# Altium schematic symbol library Schlib1.SchLib: 18 symbols
Pins are listed as number, name and electrical type; pins without a type are passive.

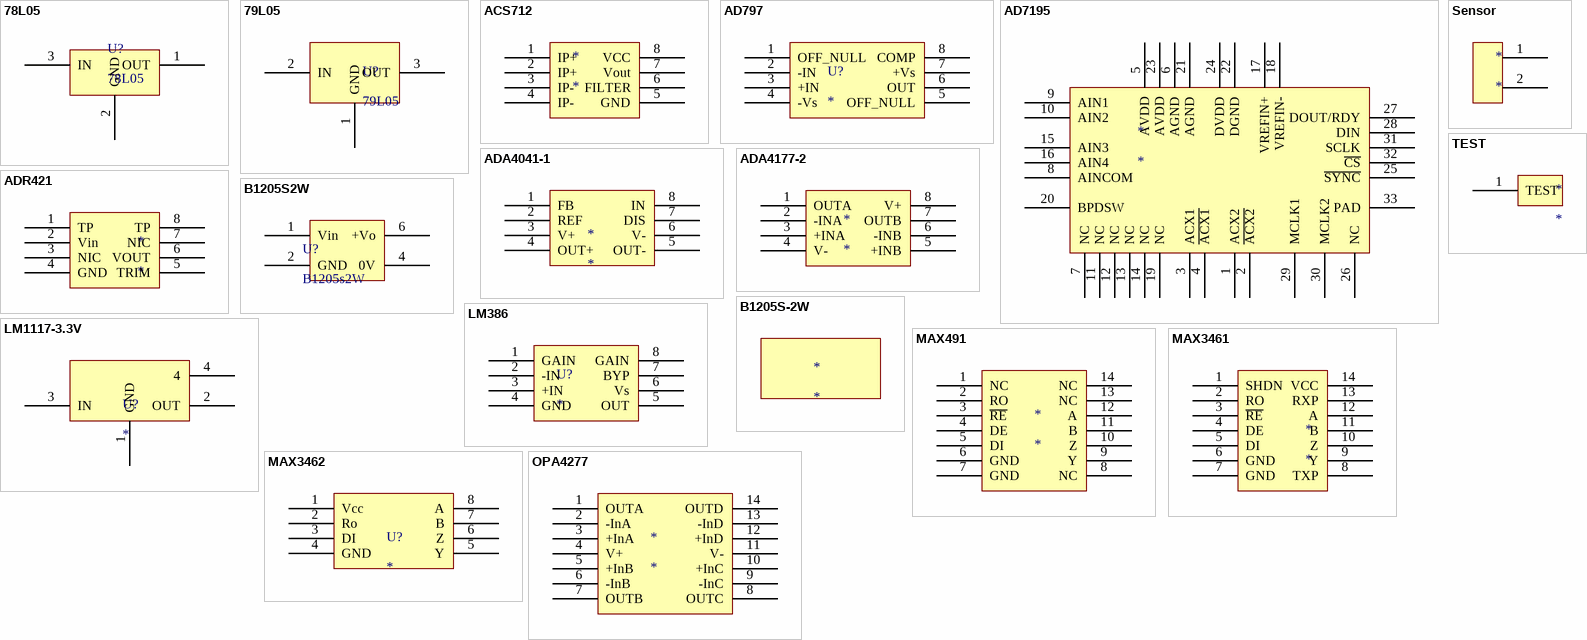
[diagram p0: symbols 78L05 to TEST]

## 78L05
designator U?
pins: 1 OUT, 2 GND, 3 IN

## 79L05
designator U?
pins: 1 GND, 2 IN, 3 OUT

## ACS712
designator *
pins: 1 IP+, 2 IP+, 3 IP-, 4 IP-, 5 GND, 6 FILTER, 7 Vout, 8 VCC

## AD797
designator U?
pins: 1 OFF_NULL, 2 -IN, 3 +IN, 4 -Vs, 5 OFF_NULL, 6 OUT, 7 +Vs, 8 COMP

## AD7195
designator *
pins: 1 ACX2, 2 ~{ACX2}, 3 ACX1, 4 ~{ACX1}, 5 AVDD, 6 AGND, 7 NC, 8 AINCOM, 9 AIN1, 10 AIN2, 11 NC, 12 NC, 13 NC, 14 NC, 15 AIN3, 16 AIN4, 17 VREFIN+, 18 VREFIN-, 19 NC, 20 BPDSW, 21 AGND, 22 DGND, 23 AVDD, 24 DVDD, 25 ~{SYNC}, 26 NC, 27 DOUT/RDY, 28 DIN, 29 MCLK1, 30 MCLK2, 31 SCLK, 32 ~{CS}, 33 PAD

## ADA4041-1
designator *
pins: 1 FB, 2 REF, 3 V+, 4 OUT+, 5 OUT-, 6 V-, 7 DIS, 8 IN

## ADA4177-2
designator *
pins: 1 OUTA, 2 -INA, 3 +INA, 4 V-, 5 +INB, 6 -INB, 7 OUTB, 8 V+

## ADR421
designator *
pins: 1 TP, 2 Vin, 3 NIC, 4 GND, 5 TRIM, 6 VOUT, 7 NIC, 8 TP

## B1205S2W
designator U?, comment B1205s2W
pins: 1 Vin, 2 GND, 4 0V, 6 +Vo

## B1205S-2W
designator *

## LM386
designator U?
pins: 1 GAIN, 2 -IN, 3 +IN, 4 GND, 5 OUT, 6 Vs, 7 BYP, 8 GAIN

## LM1117-3.3V
designator U?
pins: 1 GND, 2 OUT, 3 IN, 4

## MAX491
designator *
pins: 1 NC, 2 RO, 3 ~{RE}, 4 DE, 5 DI, 6 GND, 7 GND, 8 NC, 9 Y, 10 Z, 11 B, 12 A, 13 NC, 14 NC

## MAX3461
designator *
pins: 1 SHDN, 2 RO, 3 ~{RE}, 4 DE, 5 DI, 6 GND, 7 GND, 8 TXP, 9 Y, 10 Z, 11 B, 12 A, 13 RXP, 14 VCC

## MAX3462
designator U?
pins: 1 Vcc, 2 Ro, 3 DI, 4 GND, 5 Y, 6 Z, 7 B, 8 A

## OPA4277
designator *
pins: 1 OUTA, 2 -InA, 3 +InA, 4 V+, 5 +InB, 6 -InB, 7 OUTB, 8 OUTC, 9 -InC, 10 +InC, 11 V-, 12 +InD, 13 -InD, 14 OUTD

## Sensor
designator *
pins: 1, 2

## TEST
designator *
pins: 1 TEST